# EAGLE library part FLOTILLA-CONNECTOR (library pimoroni)
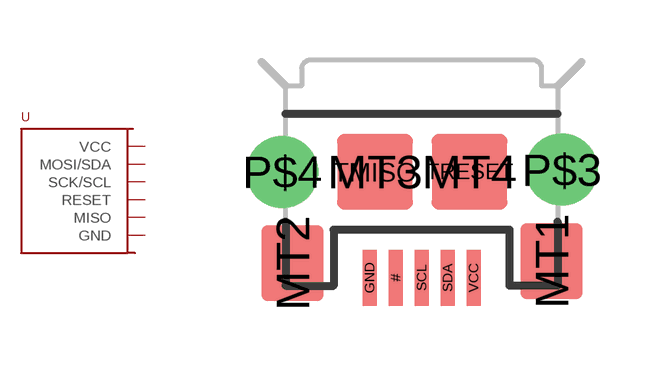
[diagram p19: symbol with the pads of FLOTILLA-CONNECTOR-DEVICE; footprint FLOTILLA-CONNECTOR-DEVICE]

Designator prefix -

## FLOTILLA-CONNECTOR-DEVICE  [FLOTILLA-CONNECTOR-DEVICE]
GND  GND
MT1  GND
MT2  GND
MT3  GND
MT4  GND
P$3  GND
P$4  GND
SCL  SCK/SCL
SDA  MOSI/SDA
TMISO  MISO
TRESET  RESET
VCC  VCC

## Footprint FLOTILLA-CONNECTOR-DEVICE (pad centres in mm)
smd 0.35 x 1.4: # -0.65,-2.65; GND -1.3,-2.65; SCL 0,-2.65; SDA 0.65,-2.65; VCC 1.3,-2.65
smd 1.546 x 1.9: MT1 3.251,-2.235; MT2 -3.226,-2.286
smd 1.9 x 1.9: MT3 -1.168,0; MT4 1.194,0
drill 1.2 pad 1.6: P$3 3.505,0.051; P$4 -3.48,0
smd 1.75 x 1.75 bottom: TMISO -1.17,-0.015; TRESET 1.2,0.01